# EAGLE library part MULTIPLEXER-TI-SN74CB3T3257 (library Pygmy)
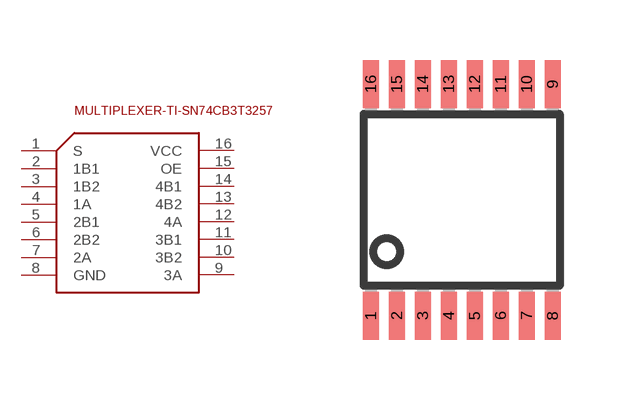
[diagram p82: symbol with the pads of PW_R-PDSO-G16; footprint PW_R-PDSO-G16]

Designator prefix -

## MULTIPLEXER-TI-SN74CB3T3257  [PW_R-PDSO-G16]
1  S
2  1B1
3  1B2
4  1A
5  2B1
6  2B2
7  2A
8  GND
9  3A
10  3B2
11  3B1
12  4A
13  4B2
14  4B1
15  OE
16  VCC

## Footprint PW_R-PDSO-G16 (pad centres in mm)
PLASTIC SMALL-OUTLINE PACKAGE SO 16 JEDEC MO-153, PW Type Source: www.ti.com/.. slvs087l.pdf
smd 0.4 x 1.2: 1 -2.275,-2.9; 2 -1.625,-2.9; 3 -0.975,-2.9; 4 -0.325,-2.9; 5 0.325,-2.9; 6 0.975,-2.9; 7 1.625,-2.9; 8 2.275,-2.9; 9 2.275,2.9; 10 1.625,2.9; 11 0.975,2.9; 12 0.325,2.9; 13 -0.325,2.9; 14 -0.975,2.9; 15 -1.625,2.9; 16 -2.275,2.9